# EAGLE library part SAMACSYS_PARTS_KCDX-5S-N (library ネオぴゅう太_ReplaceLibParts)
Circular DIN Connectors 5P R/A PCB NON SHLD 10mm CIRC DIN RECPT Source: Datasheet <http://www.kycon.com/Pub_Eng_Draw/KCDX-5S-N.pdf>
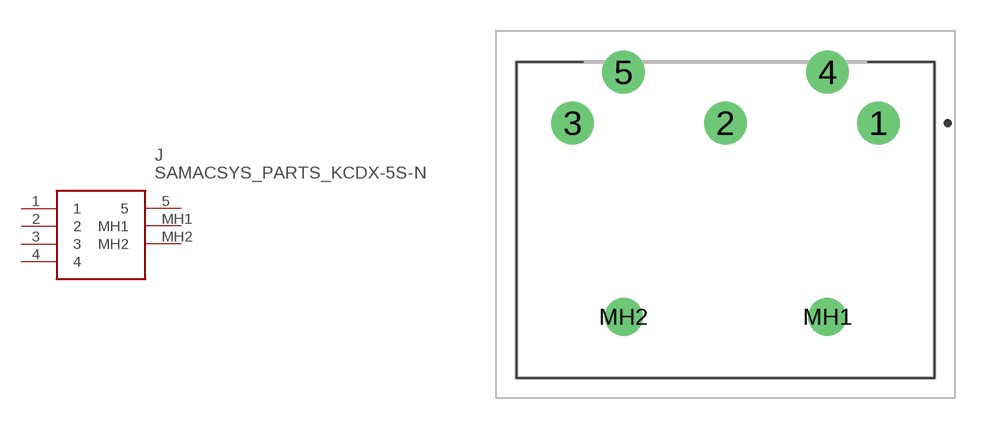
[diagram p10: symbol with the pads of SAMACSYS_PARTS_KCDX5SN; footprint SAMACSYS_PARTS_KCDX5SN]

Designator prefix J

## SAMACSYS_PARTS_KCDX-5S-N (DESCRIPTION: Circular DIN Connectors 5P R/A PCB NON SHLD 10mm CIRC DIN RECPT; HEIGHT: 19.5mm; MANUFACTURER_NAME: Kycon; MANUFACTURER_PART_NUMBER: KCDX-5S-N; MOUSER_PART_NUMBER: 806-KCDX-5S-N; MOUSER_PRICE-STOCK: https://www.mouser.co.uk/ProductDetail/Kycon/KCDX-5S-N?qs=uMQTibCNu0QKDGeRAj6hLg%3D%3D)  [SAMACSYS_PARTS_KCDX5SN]
1  1
2  2
3  3
4  4
5  5
MH1  MH1
MH2  MH2

## Footprint SAMACSYS_PARTS_KCDX5SN (pad centres in mm)
KCDX-5S-N-2
drill 1.4 pad 2.1: 1 0,0; 2 -7.5,0; 3 -15,0; 4 -2.5,2.5; 5 -12.5,2.5
drill 1.24 pad 1.86: MH1 -2.5,-9.5; MH2 -12.5,-9.5